# Altium footprint library USB.PcbLib: 1 footprints
Each footprint in its own frame and in the unit in brackets; x right, y up, seen from the top. Pads: shape width x height; smd on the part's side, far side on the other; paste and mask are expansions set on the pad; w line width, h text height; cw(c..) or ccw(c..) is an arc to the next point about the centre after c.
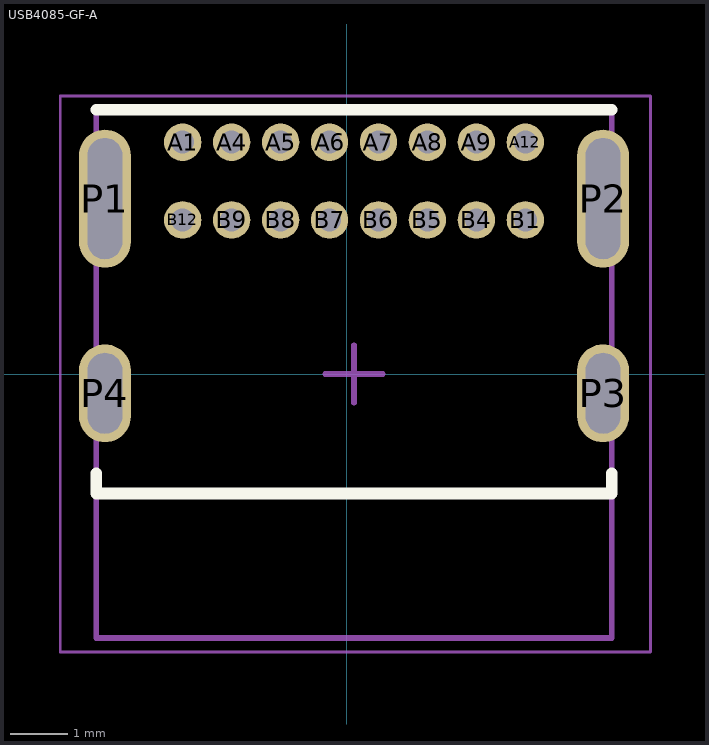
[diagram p0: the footprint, top view; thin cyan lines are the x and y axes]

## USB4085-GF-A [mm]
pads (20):
  round 0.65 hole 0.4: A1(-2.848,4.025) A4(-1.998,4.025) A5(-1.148,4.025) A6(-0.298,4.025) A7(0.552,4.025) A8(1.402,4.025) A9(2.252,4.025) A12(3.102,4.025) B1(3.102,2.675) B4(2.252,2.675) B5(1.402,2.675) B6(0.552,2.675) B7(-0.298,2.675) B8(-1.148,2.675) B9(-1.998,2.675) B12(-2.848,2.675)
  oval 0.9x2.4 hole 0.6 slot 2.1 at 90 deg: P1(-4.198,3.045) P2(4.452,3.045)
  oval 0.9x1.7 hole 0.6 slot 1.4 at 90 deg: P3(4.452,-0.335) P4(-4.198,-0.335)
Top Overlay:
  lines w0.2: -4.348,-1.725 -4.348,-2.075 4.602,-2.075 4.602,-1.725 ; -4.348,4.585 4.602,4.585
Mechanical 13:
  lines w0.1: -4.348,-4.585 -4.348,4.585 4.602,4.585 4.602,-4.585 -4.348,-4.585
Mechanical 15:
  lines w0.05: -4.973,-4.825 -4.973,4.825 5.277,4.825 5.277,-4.825 -4.973,-4.825
  lines w0.1: -0.373,0 0.627,0 ; 0.127,-0.5 0.127,0.5
3D body "USB4085-03-A_revA.STEP": height 3.46, standoff -2.1, extent -4.388,-4.564 4.642,4.606